# EAGLE library part LT1026* (library linear-technology)
Voltage Converter
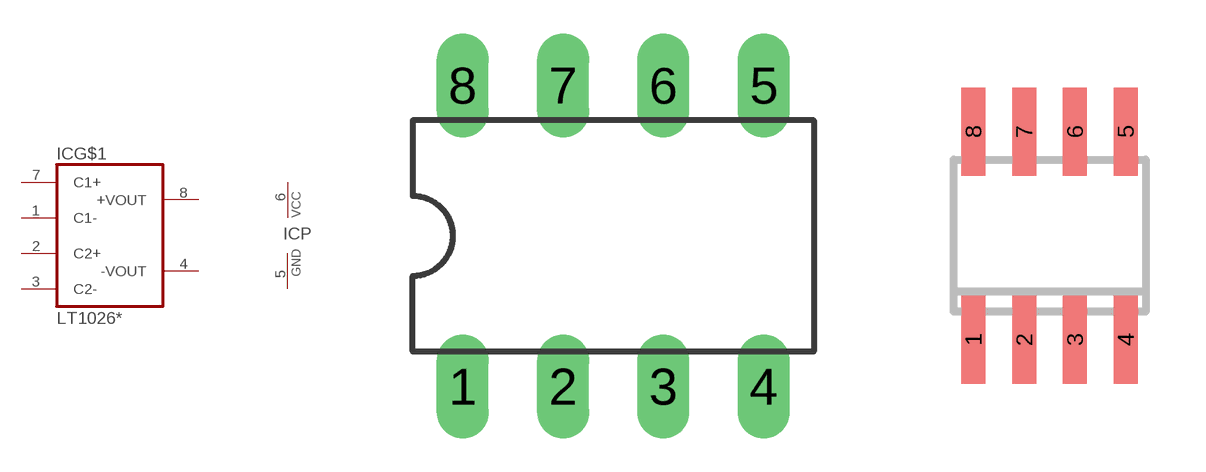
[diagram p20: symbol with the pads of DIL08; footprints DIL08, SO08]

Designator prefix IC; gates G$1=LT1026 P=PWRN-C-G

## LT1026CN8  [DIL08]
1  G$1:C1-
2  G$1:C2+
3  G$1:C2-
4  G$1:-VOUT
5  P:GND  pwr
6  P:VCC  pwr
7  G$1:C1+
8  G$1:+VOUT

## LT1026CS8, LT1026IS8  [SO08]
Pads as for DIL08

## Footprint DIL08 (pad centres in mm)
Dual In Line Package
drill 0.813 long: 1 -3.81,-3.81; 2 -1.27,-3.81; 3 1.27,-3.81; 4 3.81,-3.81; 5 3.81,3.81; 6 1.27,3.81; 7 -1.27,3.81; 8 -3.81,3.81

## Footprint SO08 (pad centres in mm)
Small Outline IC
smd 0.6 x 2.2: 1 -1.905,-2.6; 2 -0.635,-2.6; 3 0.635,-2.6; 4 1.905,-2.6; 5 1.905,2.6; 6 0.635,2.6; 7 -0.635,2.6; 8 -1.905,2.6